# Altium footprint library 1437566-4.PcbLib: 2 footprints
Each footprint in its own frame and in the unit in brackets; x right, y up, seen from the top. Pads: shape width x height; smd on the part's side, far side on the other; paste and mask are expansions set on the pad; w line width, h text height; cw(c..) or ccw(c..) is an arc to the next point about the centre after c.
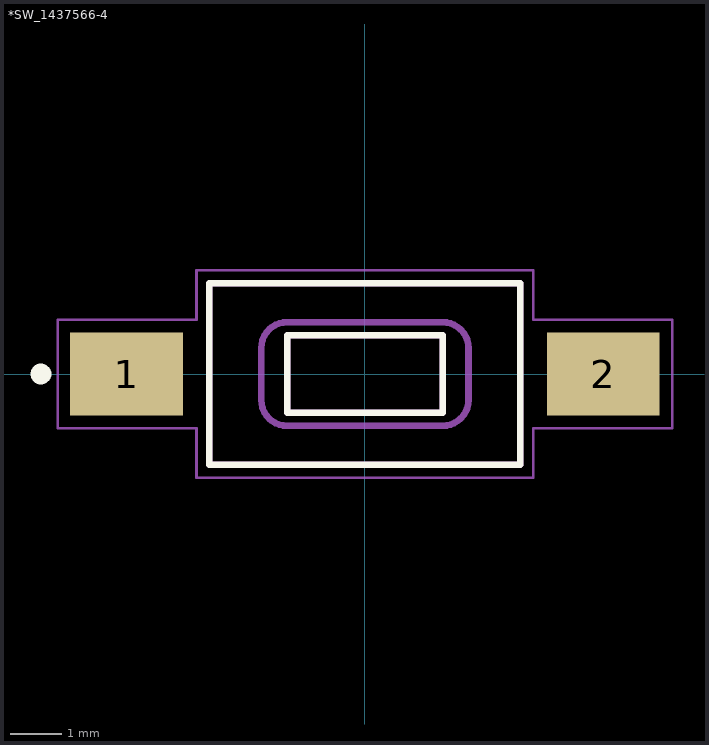
[diagram p0: the footprints below, top view; thin cyan lines are the x and y axes]

## *SW_1437566-4 [mm]
pads (2):
  rect 2.18x1.6 smd: 1(-4.6,0) 2(4.6,0)
Top Overlay:
  circle w0.2: c-6.25,0 r0.1
  lines w0.127: -3,-1.75 3,-1.75 3,1.75 -3,1.75 -3,-1.75 ; -1.5,-0.75 1.5,-0.75 1.5,0.75 -1.5,0.75 -1.5,-0.75
Mechanical 4:
  circle w0.2: c-4.6,0 r0.1
  circle w0.2: c-4.6,0 r0.1
  lines w0.127: -3,-1.75 3,-1.75 ; -3,-1.75 -3,1.75 ; -3,-1.75 3,-1.75 ; -3,-1.75 -3,1.75 ; -3,1.75 3,1.75 ; -3,1.75 3,1.75 ; -2,-0.5 ccw(c-1.5,-0.5) -1.5,-1 ; -2,-0.5 ccw(c-1.5,-0.5) -1.5,-1 ; -2,-0.5 -2,0.5 ; -2,-0.5 -2,0.5 ; -2,0.5 cw(c-1.5,0.5) -1.5,1 ; -2,0.5 cw(c-1.5,0.5) -1.5,1 ; -1.5,-1 1.5,-1 ; -1.5,-1 1.5,-1 ; -1.5,-0.75 1.5,-0.75 ; -1.5,-0.75 -1.5,0.75 ; -1.5,-0.75 1.5,-0.75 ; -1.5,-0.75 -1.5,0.75 ; -1.5,0.75 1.5,0.75 ; -1.5,0.75 1.5,0.75 ; -1.5,1 1.5,1 ; -1.5,1 1.5,1 ; 1.5,-1 ccw(c1.5,-0.5) 2,-0.5 ; 1.5,-1 ccw(c1.5,-0.5) 2,-0.5 ; 1.5,-0.75 1.5,0.75 ; 1.5,-0.75 1.5,0.75 ; 1.5,1 cw(c1.5,0.5) 2,0.5 ; 1.5,1 cw(c1.5,0.5) 2,0.5 ; 2,-0.5 2,0.5 ; 2,-0.5 2,0.5 ; 3,-1.75 3,1.75 ; 3,-1.75 3,1.75
Mechanical 16:
  lines w0.05: -5.93,-1.05 -5.93,1.05 -3.25,1.05 -3.25,2 3.25,2 3.25,1.05 5.93,1.05 5.93,-1.05 3.25,-1.05 3.25,-2 -3.25,-2 -3.25,-1.05 -5.93,-1.05

## PCBComponent_1 [mm]